# Altium schematic symbol library 24AA01.Schlib: 1 symbol
Pins are listed as number, name and electrical type; pins without a type are passive.

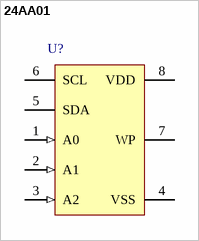
[diagram p0: symbol 24AA01]

## 24AA01
designator U?  (value not drawn)
1Kbit I2C Serial EEPROM, 8-pin
pins: 1 A0 (in), 2 A1 (in), 3 A2 (in), 4 VSS (power), 5 SDA (oc), 6 SCL (oc), 7 WP, 8 VDD (power)